# EAGLE library part M8S-04PFFP-SF8001 (library M8S-04PFFP-SF8001)
Connector: M8; female; PIN:4; straight; on PCBs; socket; 4A; IP68 Source: Datasheet
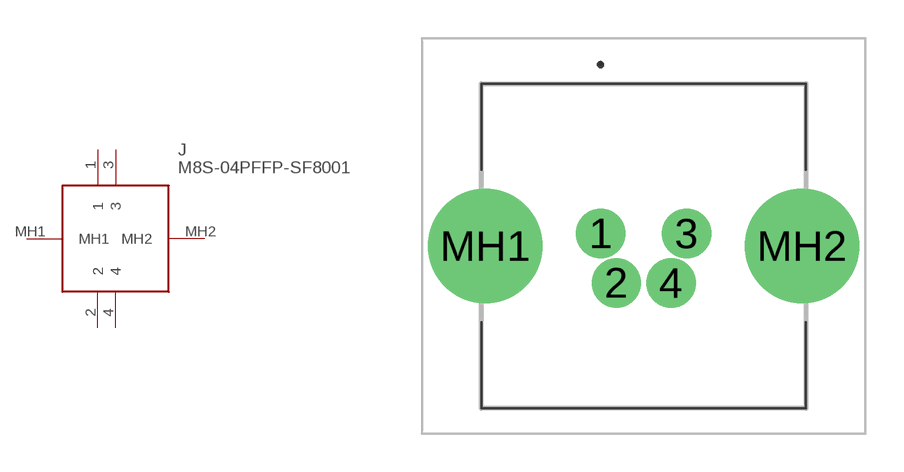
[diagram p0: symbol with the pads of M8S04PFFPSF8001; footprint M8S04PFFPSF8001]

Designator prefix J

## M8S-04PFFP-SF8001 (Description: Connector: M8; female; PIN:4; straight; on PCBs; socket; 4A; IP68; Height: 15.25mm; Manufacturer_Name: Amphenol; Manufacturer_Part_Number: M8S-04PFFP-SF8001)  [M8S04PFFPSF8001]
1  1
2  2
3  3
4  4
MH1  MH1
MH2  MH2

## Footprint M8S04PFFPSF8001 (pad centres in mm)
M8S-04PFFP-SF8001-2
drill 1.3 pad 1.8: 1 0,0; 2 0.625,-1.95; 3 3.4,0; 4 2.775,-1.95
drill 3 pad 4.5: MH1 -4.55,-0.5; MH2 7.95,-0.5